# EAGLE library part TLC277P (library BURR)
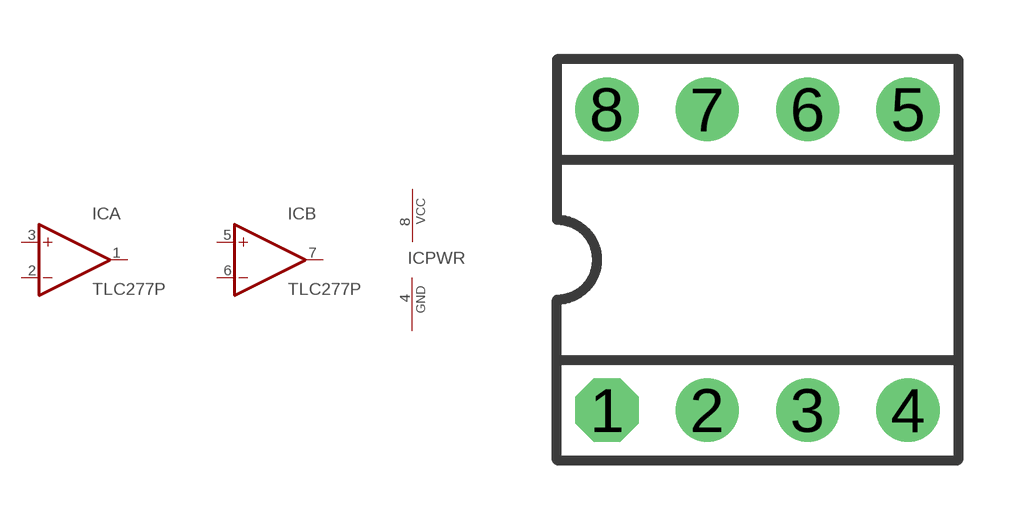
[diagram p0: symbol with the pads of DIL-08; footprint DIL-08]

Designator prefix IC; gates A=OP-AMP B=OP-AMP PWR=PWRN

## TLC277P  [DIL-08]
1  A:OUT  out
2  A:-IN  in
3  A:+IN  in
4  PWR:GND  pwr
5  B:+IN  in
6  B:-IN  in
7  B:OUT  out
8  PWR:VCC  pwr

## Footprint DIL-08 (pad centres in mm)
drill 0.889 pad 1.6 octagon: 1 -3.81,-3.81
drill 0.889 pad 1.6: 2 -1.27,-3.81; 3 1.27,-3.81; 4 3.81,-3.81; 5 3.81,3.81; 6 1.27,3.81; 7 -1.27,3.81; 8 -3.81,3.81